# Altium footprint library PRINTKROONSTEEN2POLIG.PcbLib: 1 footprints
Each footprint in its own frame and in the unit in brackets; x right, y up, seen from the top. Pads: shape width x height; smd on the part's side, far side on the other; paste and mask are expansions set on the pad; w line width, h text height; cw(c..) or ccw(c..) is an arc to the next point about the centre after c.
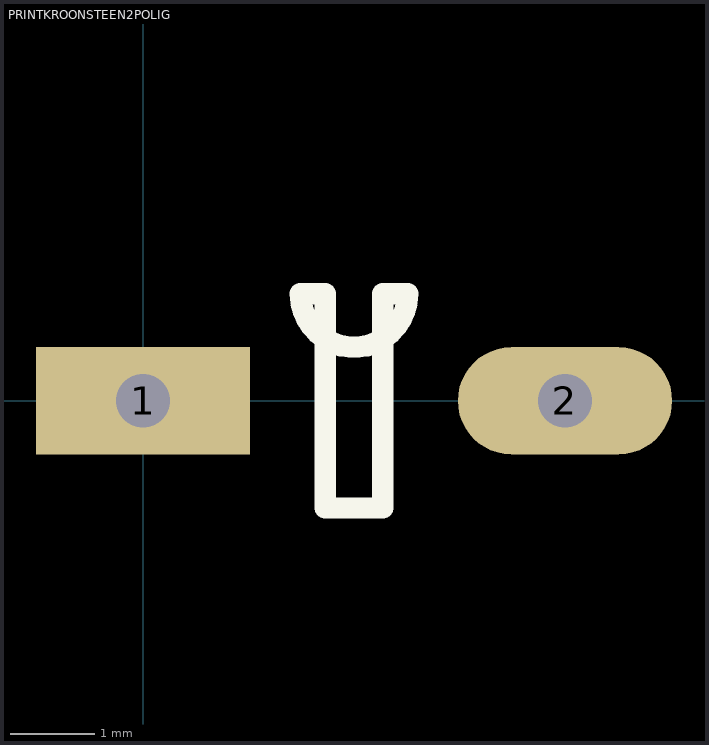
[diagram p0: the footprint, top view; thin cyan lines are the x and y axes]

## PRINTKROONSTEEN2POLIG [mm]
pads (2):
  rect 2.54x1.27 hole 0.635: 1(0,0)
  oval 2.54x1.27 hole 0.635: 2(5,0)
Top Overlay:
  lines w0.254: 1.865,1.27 ccw(c2.5,1.27) 3.135,1.27 2.841,1.27 2.841,-1.27 2.159,-1.27 2.159,1.27 1.865,1.27